# Altium footprint library Circuitos de cierre.PcbLib: 1 footprints
Each footprint in its own frame and in the unit in brackets; x right, y up, seen from the top. Pads: shape width x height; smd on the part's side, far side on the other; paste and mask are expansions set on the pad; w line width, h text height; cw(c..) or ccw(c..) is an arc to the next point about the centre after c.
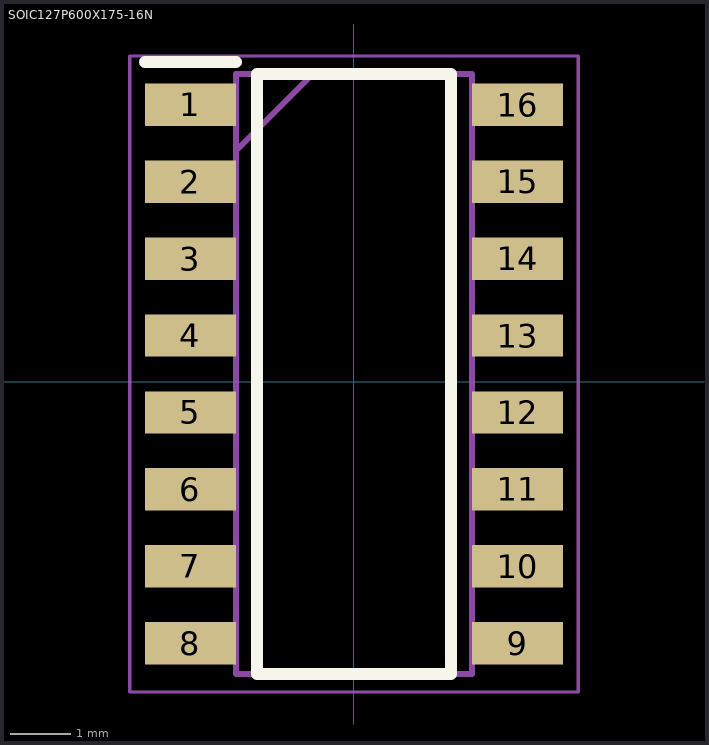
[diagram p0: the footprint, top view; thin cyan lines are the x and y axes]

## SOIC127P600X175-16N [mm]
pads (16):
  rect 1.5x0.7 smd: 1(-2.7,4.572) 2(-2.7,3.302) 3(-2.7,2.032) 4(-2.7,0.762) 5(-2.7,-0.508) 6(-2.7,-1.778) 7(-2.7,-3.048) 8(-2.7,-4.318) 9(2.7,-4.318) 10(2.7,-3.048) 11(2.7,-1.778) 12(2.7,-0.508) 13(2.7,0.762) 14(2.7,2.032) 15(2.7,3.302) 16(2.7,4.572)
Top Overlay:
  lines w0.2: -3.45,5.272 -1.95,5.272 ; -1.6,-4.823 -1.6,5.077 1.6,5.077 1.6,-4.823 -1.6,-4.823
Mechanical 13:
  lines w0.1: -1.95,3.807 -0.68,5.077 ; -1.95,-4.823 -1.95,5.077 1.95,5.077 1.95,-4.823 -1.95,-4.823
Mechanical 15:
  lines w0.05: -3.7,-5.123 -3.7,5.377 3.7,5.377 3.7,-5.123 -3.7,-5.123
3D body "SOIC-16.STEP": height 1.4, standoff 0, extent -3,-4.823 3,5.077